# EAGLE library part SKY13350-385LF (library Particle)
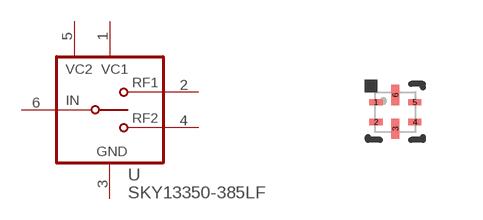
[diagram p17: symbol with the pads of XFDFN-6; footprint XFDFN-6]

Designator prefix -; gates G$1=SKY13351-378LF_CTRL G$2=SKY13351-378LF_SPDT

## SKY13350-385LF  [XFDFN-6]
1  G$1:VC1  in
2  G$2:RF1
3  G$1:GND  pwr
4  G$2:RF2
5  G$1:VC2  in
6  G$2:IN

## Footprint XFDFN-6 (pad centres in mm)
smd 0.33 x 0.15: 1 -0.485,0.25; 2 -0.485,-0.25; 4 0.485,-0.25; 5 0.485,0.25
smd 0.2 x 0.51: 3 0,-0.42; 6 0,0.42